# Altium integrated library BJT8050.IntLib: 1 symbol
Pins are listed as number, name and electrical type; pins without a type are passive.

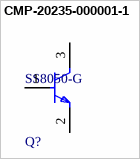
[diagram p0: symbol CMP-20235-000001-1]

## CMP-20235-000001-1
designator Q?, comment SS8050-G
NPN TRANSISTOR 1.5A 40V SOT-23 R; Transition Frequency: 100MHz; Max Breakdown Voltage: 25V; Collector Emitter Voltage (VCEO): 400mV; Max Power Dissipation: 300mW; Max Collector Current: 1.5A; Case/Package: TO-236-3; Packaging: Tape and Reel; RoHS Compliant: Yes; Mount: Surface Mount; Collector Emitter Breakdown Voltage: 25V
footprint FP-SS8050-G-IPC_B
footprint FP-SS8050-G-IPC_C
footprint FP-SS8050-G-IPC_A
footprint FP-SS8050-G-MFG
pins: 1 B, 2 E, 3 C